# Altium footprint library МДМ-3vsSLH2805.PcbLib: 1 footprints
Each footprint in its own frame and in the unit in brackets; x right, y up, seen from the top. Pads: shape width x height; smd on the part's side, far side on the other; paste and mask are expansions set on the pad; w line width, h text height; cw(c..) or ccw(c..) is an arc to the next point about the centre after c.
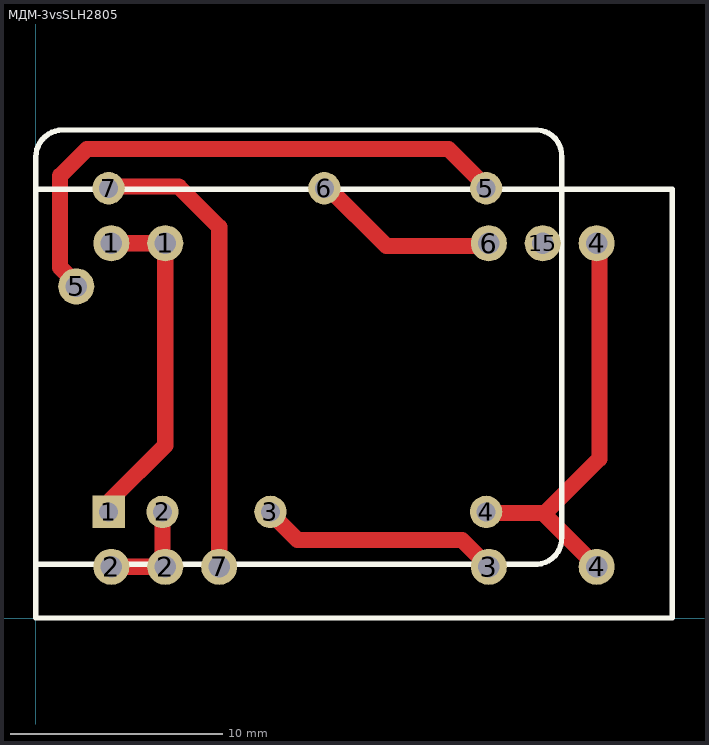
[diagram p0: the footprint, top view; thin cyan lines are the x and y axes]

## МДМ-3vsSLH2805 [mil]
pads (18):
  rect 60x60 hole 35.43: 1(135,197)
  round 66.93 hole 39.37: 1(140,695) 1(240,695) 2(140,95) 2(240,95) 3(840,95) 4(1040,95) 4(1040,695) 5(75,615) 6(840,695) 7(340,95) 15(940,695)
  round 60 hole 35.43: 2(235,197) 3(435,197) 4(835,197) 5(835,797) 6(535,797) 7(135,797)
Top Layer:
  lines w30: 70,610 70,625 45,650 45,820 95,870 765,870 835,800 ; 140,95 240,95 ; 140,200 140,220 240,320 240,700 ; 140,695 245,695 ; 140,800 265,800 340,725 340,95 ; 235,200 235,95 240,90 ; 435,200 435,195 485,145 790,145 840,95 ; 530,800 540,800 650,690 835,690 845,700 ; 1040,95 940,195 840,195 945,195 1045,295 1045,700
Top Overlay:
  lines w10: 925,100 0,100 0,855 cw(c50,855) 50,905 925,905 ; 930,100 ccw(c927.5,147.5) 975,150 975,855 ccw(c927.5,857.5) 930,905 ; 0,0 1180,0 1180,795 0,795 0,0
3D body: height 270, standoff 0, extent 0,100 980,905